# Altium schematic symbol library Replacements.SchLib: 8 symbols
Pins are listed as number, name and electrical type; pins without a type are passive.

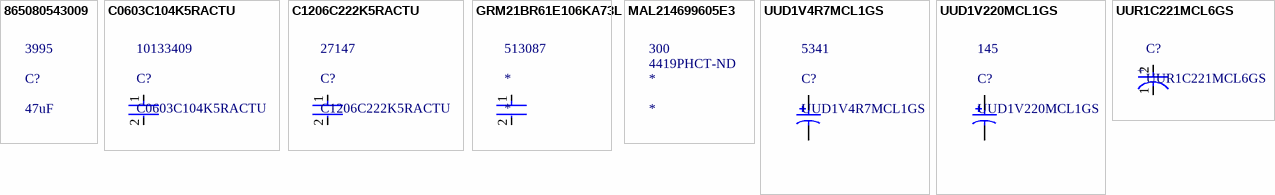
[diagram p0: symbols 865080543009 to UUR1C221MCL6GS]

## 865080543009
designator C?, comment 47uF  Stock 1: 3995
Alum. Electrolytic Cap 47µF 35V 6.3mmV-Chip WCAP-ASLI; Lifetime 2000h +105°C; Manufacturer: Wurth Electronics; Manufacturer Part Number: 865080543009; Polarity: Polar; Ripple Current: 240mA; Impedance: 530mR; Life (Hours): 2000Hour; Tolerance: 20%; Supplier 1: Digi-Key; RoHS: Yes; Category: Aluminum Electrolytic Capacitors; Pricing 1: 1=0.27000, 50=0.23000, 100=0.20100, 250=0.17800, 500=0.15600 (USD); Mount: Surface Mount; Case/Package: Radial; Min Operating Temperature: -55°C; Max Operating Temperature: 105°C; Package Quantity: 1000; Packaging: Cut Tape; Voltage Rating: 35V; Ripple Current (AC): 240mA; Voltage Rating (DC): 35V; Capacitance: 47uF; Diameter: 6.3mm; Height: 5.5mm; Height - Seated (Max): 0.217inch; REACH SVHC: Unknown; RoHS Compliant: Yes; ComponentLink1URL: http://www.farnell.com/datasheets/1880161.pdf?src-supplier=Farnell; ComponentLink1Description: http://www.farnell.com/datasheets/1880161.pdf?src-supplier=Farnell; ComponentLink2URL: http://katalog.we-online.de/pbs/datasheet/865080543009.pdf?src-supplier=Digi-Key; ComponentLink2Description: http://katalog.we-online.de/pbs/datasheet/865080543009.pdf?src-supplier=Digi-Key; ComponentLink3URL: https://katalog.we-online.de/pbs/datasheet/865080543009.pdf?src-supplier=Digi-Key; ComponentLink3Description: https://katalog.we-online.de/pbs/datasheet/865080543009.pdf?src-supplier=Digi-Key; ComponentLink4URL: http://www.farnell.com/datasheets/1880161.pdf?src-supplier=Newark; ComponentLink4Description: http://www.farnell.com/datasheets/1880161.pdf?src-supplier=Newark; ComponentLink5URL: http://www.farnell.com/datasheets/1880161.pdf?src-supplier=Element14; ComponentLink5Description: http://www.farnell.com/datasheets/1880161.pdf?src-supplier=Element14; Supplier Part Number 1: 732-8508-1-ND

## C0603C104K5RACTU
designator C?  Stock 1: 10133409
Multilayer Ceramic Capacitors (MLCC) - SMD/SMT 50volts 0.1uF X7R 10%; Manufacturer: KEMET; Voltage Rating (DC): 50V; Capacitance: 100nF; Dissipation Factor: 2.5%; Supplier 1: Digi-Key; Manufacturer Part Number: C0603C104K5RACTU; RoHS: Yes; Category: Ceramic Capacitors; Pricing 1: 1=0.12000, 10=0.08500, 50=0.04620, 100=0.03770, 500=0.02696, 1000=0.02118 (USD); Mount: Surface Mount; Case/Package: 0603; Number of Pins: 2; Case Code (Metric): 1608; Case Code (Imperial): 0603; Dielectric Material: Ceramic; Contact Plating: Tin,Matte; Min Operating Temperature: -55°C; Max Operating Temperature: 125°C; Tolerance: 10%; Voltage Rating: 50V; Packaging: Tape and Reel; Package Quantity: 1; Dielectric: X7R; Termination: SMD/SMT; Voltage: 50V; Series: SMD Comm X7R; Length: 0.063inch; Width: 0.031inch; Height: 0.8mm; Thickness: 0.034inch; Depth: 0.8mm; Lead Pitch: 0.7mm; Radiation Hardening: No; REACH SVHC: No SVHC; RoHS Compliant: Yes; ComponentLink1URL: https://datasheet.ciiva.com/7823/kem-c1002-x7r-smd-7823591.pdf?src-supplier=Element14; ComponentLink1Description: https://datasheet.ciiva.com/7823/kem-c1002-x7r-smd-7823591.pdf?src-supplier=Element14; ComponentLink2URL: https://datasheet.ciiva.com/7823/kem-c1002-x7r-smd-7823592.pdf?src-supplier=Element14; ComponentLink2Description: https://datasheet.ciiva.com/7823/kem-c1002-x7r-smd-7823592.pdf?src-supplier=Element14; ComponentLink3URL: https://datasheet.ciiva.com/5999/kem-c1002-x7r-smd-5999400.pdf?src-supplier=Farnell; ComponentLink3Description: https://datasheet.ciiva.com/5999/kem-c1002-x7r-smd-5999400.pdf?src-supplier=Farnell; ComponentLink4URL: https://datasheet.ciiva.com/28645/1851736-28645640.pdf?src-supplier=Element14; ComponentLink4Description: https://datasheet.ciiva.com/28645/1851736-28645640.pdf?src-supplier=Element14; ComponentLink5URL: https://datasheet.ciiva.com/14585/70095383-14585209.pdf?src-supplier=Allied+Electronics; ComponentLink5Description: https://datasheet.ciiva.com/14585/70095383-14585209.pdf?src-supplier=Allied+Electronics; ComponentLink6URL: https://datasheet.ciiva.com/14602/70095383-14602583.pdf?src-supplier=Allied+Electronics; ComponentLink6Description: https://datasheet.ciiva.com/14602/70095383-14602583.pdf?src-supplier=Allied+Electronics; Supplier Part Number 1: 399-C0603C104K5RAC7867CT-ND
footprint FP-C0603C-CF-IPC_A
pins: 1, 2

## C1206C222K5RACTU
designator C?  Stock 1: 27147
CAPACITOR SMD Multilayer Ceramic MLCC 1206 Case 2200pF ±10% 50Vdc X7R Dielectric -55°C~+125°C T/R; Manufacturer: KEMET; Capacitance: 2.2nF; Voltage Rating: 50V; Supplier 1: Digi-Key; Manufacturer Part Number: C1206C222K5RACTU; RoHS: Yes; Category: Ceramic Capacitors; Pricing 1: 1=0.23000, 10=0.16000, 50=0.09600, 100=0.08110, 500=0.05548, 1000=0.04908 (USD); Mount: Surface Mount,PCB; Case/Package: 1206; Case Code (Imperial): 1206; Case Code (Metric): 3216; Dielectric Material: Ceramic; Min Operating Temperature: -55°C; Max Operating Temperature: 125°C; Packaging: Tape and Reel; Package Quantity: 1; Tolerance: 10%; Voltage Rating (DC): 50V; Termination: SMD/SMT; Series: C; Dielectric: X7R; Voltage: 50V; Construction: Flat; Length: 3.2mm; Width: 0.063inch; Height: 0.78mm; Depth: 1.6mm; Thickness: 0.035inch; Radiation Hardening: No; REACH SVHC: No SVHC; RoHS Compliant: Yes; ComponentLink1URL: https://datasheet.ciiva.com/14589/70095383-14589254.pdf?src-supplier=Allied+Electronics; ComponentLink1Description: https://datasheet.ciiva.com/14589/70095383-14589254.pdf?src-supplier=Allied+Electronics; ComponentLink2URL: https://datasheet.ciiva.com/14606/70095383-14606284.pdf?src-supplier=Allied+Electronics; ComponentLink2Description: https://datasheet.ciiva.com/14606/70095383-14606284.pdf?src-supplier=Allied+Electronics; ComponentLink3URL: https://datasheet.ciiva.com/28693/1851736-28693015.pdf?src-supplier=Element14; ComponentLink3Description: https://datasheet.ciiva.com/28693/1851736-28693015.pdf?src-supplier=Element14; ComponentLink4URL: https://datasheet.ciiva.com/46443/1851736-46443542.pdf?src-supplier=Element14; ComponentLink4Description: https://datasheet.ciiva.com/46443/1851736-46443542.pdf?src-supplier=Element14; ComponentLink5URL: https://datasheet.ciiva.com/46385/1851736-46385639.pdf?src-supplier=Element14; ComponentLink5Description: https://datasheet.ciiva.com/46385/1851736-46385639.pdf?src-supplier=Element14; Supplier Part Number 1: 399-C1206C222K5RAC7800CT-ND
footprint FP-C1206C-EB-IPC_A
pins: 1, 2

## GRM21BR61E106KA73L
designator *  Stock 1: 513087
0805 10 uF 25 V ±10% Tolerance X5R SMT Multilayer Ceramic Capacitor; Manufacturer: Murata; Manufacturer Part Number: GRM21BR61E106KA73L; Capacitance: 10uF; Voltage Rating: 25V; Supplier 1: Mouser; RoHS: Yes; Category: Ceramic Capacitors; Pricing 1: 1=0.24000, 10=0.16400, 50=0.16400, 100=0.08400, 1000=0.08400, 6000=0.07600, 9000=0.06200, 10000=0.06200, 24000=0.05400 (USD); Mount: Surface Mount; Case/Package: 0805; Case Code (Metric): 2012; Case Code (Imperial): 0805; Material: Ceramic; Min Operating Temperature: -55°C; Max Operating Temperature: 85°C; Package Quantity: 1; Tolerance: 10%; Packaging: Tape and Reel; Voltage Rating (DC): 25V; Termination: SMD/SMT; Voltage: 25V; Series: GRM; Construction: Flat; Dielectric: X5R; Length: 2mm; Width: 0.049inch; Height: 1.25mm; Depth: 1.25mm; Thickness: 0.053inch; Radiation Hardening: No; REACH SVHC: Unknown; RoHS Compliant: Yes; Lead Free: Lead Free; ComponentLink1URL: https://datasheet.ciiva.com/22774/1747469-22774396.pdf?src-supplier=Farnell; ComponentLink1Description: https://datasheet.ciiva.com/22774/1747469-22774396.pdf?src-supplier=Farnell; ComponentLink2URL: https://datasheet.ciiva.com/5424/product-5424327.pdf?src-supplier=Mouser; ComponentLink2Description: https://datasheet.ciiva.com/5424/product-5424327.pdf?src-supplier=Mouser; ComponentLink3URL: https://datasheet.ciiva.com/16440/grm21br61e106ka73l-16440627.pdf?src-supplier=Future+Electronics; ComponentLink3Description: https://datasheet.ciiva.com/16440/grm21br61e106ka73l-16440627.pdf?src-supplier=Future+Electronics; ComponentLink4URL: https://datasheet.ciiva.com/28584/626718-28584288.pdf?src-supplier=Element14; ComponentLink4Description: https://datasheet.ciiva.com/28584/626718-28584288.pdf?src-supplier=Element14; ComponentLink5URL: https://datasheet.ciiva.com/29199/454623-da-01-en-vs-kondensator-0805-29199615.pdf?src-supplier=Conrad; ComponentLink5Description: https://datasheet.ciiva.com/29199/454623-da-01-en-vs-kondensator-0805-29199615.pdf?src-supplier=Conrad; ComponentLink6URL: https://datasheet.ciiva.com/139/partnumbering-e-01-139182.pdf?src-supplier=Digi-Key; ComponentLink6Description: https://datasheet.ciiva.com/139/partnumbering-e-01-139182.pdf?src-supplier=Digi-Key; ComponentLink7URL: https://datasheet.ciiva.com/139/partnumbering-e-01-139183.pdf?src-supplier=Digi-Key; ComponentLink7Description: https://datasheet.ciiva.com/139/partnumbering-e-01-139183.pdf?src-supplier=Digi-Key; ComponentLink8URL: https://datasheet.ciiva.com/139/partnumbering-e-01-139184.pdf?src-supplier=Digi-Key; ComponentLink8Description: https://datasheet.ciiva.com/139/partnumbering-e-01-139184.pdf?src-supplier=Digi-Key; ComponentLink9URL: https://datasheet.ciiva.com/28584/626718-28584279.pdf?src-supplier=Element14; ComponentLink9Description: https://datasheet.ciiva.com/28584/626718-28584279.pdf?src-supplier=Element14; ComponentLink10URL: https://datasheet.ciiva.com/7719/1747469-7719093.pdf?src-supplier=Element14; ComponentLink10Description: https://datasheet.ciiva.com/7719/1747469-7719093.pdf?src-supplier=Element14; ComponentLink11URL: https://datasheet.ciiva.com/14116/grmseries-highdielectrictype-eng-14116376.pdf?src-supplier=Distrelec; ComponentLink11Description: https://datasheet.ciiva.com/14116/grmseries-highdielectrictype-eng-14116376.pdf?src-supplier=Distrelec; Supplier Part Number 1: 81-GRM21BR61E106KA3L
footprint FP-GRM21B-0_15-IPC_A
pins: 1, 2

## MAL214699605E3
designator *  Supplier Part Number 1: 4419PHCT-ND  Stock 1: 300
Cap Aluminum 1000uF 25V 20% (16 X 16mm) SMD 1400mA 5000 hr 125°C T/R; Manufacturer: Vishay BCcomponents; Manufacturer Part Number: MAL214699605E3; Capacitance: 1mF; Ripple Current: 1.4A; Impedance: 50mR; Polarity: Polar; Leakage Current: 250uA; Life (Hours): 5000Hour; Lead Diameter: 1.3mm; Supplier 1: Digi-Key; RoHS: Yes; Category: Aluminum Electrolytic Capacitors; Pricing 1: 1=4.25000, 10=3.42400, 50=2.94480 (USD); Mount: Surface Mount; Case/Package: Radial; Min Operating Temperature: -55°C; Max Operating Temperature: 125°C; Tolerance: 20%; Package Quantity: 150; Voltage Rating: 25V; Packaging: Tape and Reel; Voltage Rating (DC): 25V; Termination: SMD/SMT; Voltage: 25V; Series: 146 CTI; Construction: Cylindrical; Diameter: 16mm; Width: 16mm; Height: 16mm; Lead Pitch: 6.5mm; Height - Seated (Max): 0.63inch; Radiation Hardening: No; RoHS Compliant: Yes; ComponentLink1URL: https://datasheet.ciiva.com/11777/0900766b81003e87-11777124.pdf?src-supplier=RSComponents; ComponentLink1Description: https://datasheet.ciiva.com/11777/0900766b81003e87-11777124.pdf?src-supplier=RSComponents; ComponentLink2URL: https://datasheet.ciiva.com/100/146cti-100097.pdf?src-supplier=Digi-Key; ComponentLink2Description: https://datasheet.ciiva.com/100/146cti-100097.pdf?src-supplier=Digi-Key; ComponentLink3URL: https://datasheet.ciiva.com/100/146cti-100098.pdf?src-supplier=Digi-Key; ComponentLink3Description: https://datasheet.ciiva.com/100/146cti-100098.pdf?src-supplier=Digi-Key; ComponentLink4URL: https://datasheet.ciiva.com/100/146cti-100099.pdf?src-supplier=Digi-Key; ComponentLink4Description: https://datasheet.ciiva.com/100/146cti-100099.pdf?src-supplier=Digi-Key; ComponentLink5URL: https://datasheet.ciiva.com/5360/146cti-247382-5360202.pdf?src-supplier=Mouser; ComponentLink5Description: https://datasheet.ciiva.com/5360/146cti-247382-5360202.pdf?src-supplier=Mouser; ComponentLink6URL: https://datasheet.ciiva.com/17506/146cti-17506712.pdf?src-supplier=Avnet+Europe; ComponentLink6Description: https://datasheet.ciiva.com/17506/146cti-17506712.pdf?src-supplier=Avnet+Europe

## UUD1V4R7MCL1GS
designator C?  Stock 1: 5341
Cap Aluminum Lytic 4.7uF 35V 20% (4 X 5.8mm) SMD 80mA 2000h 105C Automotive T/R; Manufacturer: Nichicon; Dielectric Material: Aluminium; Leakage Current: 3uA; Life (Hours): 2000Hour; Impedance: 1.8R; Dissipation Factor: 0.12%; Supplier 1: Digi-Key; Manufacturer Part Number: UUD1V4R7MCL1GS; RoHS: Yes; Category: Aluminum Electrolytic Capacitors; Pricing 1: 1=0.51000, 10=0.35600, 50=0.24960, 100=0.21390, 500=0.16042, 1000=0.13547 (USD); Case/Package: Radial; Number of Pins: 2; Min Operating Temperature: -55°C; Max Operating Temperature: 105°C; Tolerance: 20%; Ripple Current: 80mA; Package Quantity: 2000; Voltage Rating (DC): 35V; Packaging: Tape and Reel; Capacitance: 4.7uF; Termination: SMD/SMT; Series: UUD; Voltage Rating: 35V; Construction: Cylindrical; Ripple Current (AC): 80mA; Diameter: 4mm; Length: 5.8mm; Height: 5.8mm; Height - Seated (Max): 0.228inch; Radiation Hardening: No; RoHS Compliant: Yes; Lead Free: Lead Free; REACH SVHC: No SVHC; ComponentLink1URL: https://datasheet.ciiva.com/96/e-ud-96647.pdf?src-supplier=Digi-Key; ComponentLink1Description: https://datasheet.ciiva.com/96/e-ud-96647.pdf?src-supplier=Digi-Key; ComponentLink2URL: https://datasheet.ciiva.com/96/e-ud-96648.pdf?src-supplier=Digi-Key; ComponentLink2Description: https://datasheet.ciiva.com/96/e-ud-96648.pdf?src-supplier=Digi-Key; ComponentLink3URL: https://datasheet.ciiva.com/96/e-ud-96649.pdf?src-supplier=Digi-Key; ComponentLink3Description: https://datasheet.ciiva.com/96/e-ud-96649.pdf?src-supplier=Digi-Key; ComponentLink4URL: https://datasheet.ciiva.com/5360/e-ud-5360520.pdf?src-supplier=Mouser; ComponentLink4Description: https://datasheet.ciiva.com/5360/e-ud-5360520.pdf?src-supplier=Mouser; ComponentLink5URL: https://datasheet.ciiva.com/11687/e-ud-11687388.pdf?src-supplier=Avnet; ComponentLink5Description: https://datasheet.ciiva.com/11687/e-ud-11687388.pdf?src-supplier=Avnet; ComponentLink6URL: https://datasheet.ciiva.com/16383/e-ud-16383407.pdf?src-supplier=Future+Electronics; ComponentLink6Description: https://datasheet.ciiva.com/16383/e-ud-16383407.pdf?src-supplier=Future+Electronics; ComponentLink7URL: https://datasheet.ciiva.com/7793/e-ud-7793429.pdf?src-supplier=Element14; ComponentLink7Description: https://datasheet.ciiva.com/7793/e-ud-7793429.pdf?src-supplier=Element14; ComponentLink8URL: https://datasheet.ciiva.com/17354/e-ud-17354680.pdf?src-supplier=Avnet+Europe; ComponentLink8Description: https://datasheet.ciiva.com/17354/e-ud-17354680.pdf?src-supplier=Avnet+Europe; Supplier Part Number 1: 493-2281-1-ND
footprint NIC-CAPA2-4X5.8_V (Aluminum Electrolytic Capacitor, Diameter 4mm, Height 6.1mm, Pitch 3.6mm)
pins: 1, 2

## UUD1V220MCL1GS
designator C?  Stock 1: 145
Aluminum Electrolytic Capacitor, 22uF 35 V, UD Series 2000h 5 (Dia.) x 5.8mm; Manufacturer: Nichicon; Dielectric Material: Aluminium; Tolerance: 20%; Ripple Current: 150mA; Voltage Rating (DC): 35V; Impedance: 760mR; Leakage Current: 3uA; Life (Hours): 2000Hour; Dissipation Factor: 0.12%; Polarity: Polar; Lead Diameter: 0.8mm; Supplier 1: Mouser; Manufacturer Part Number: UUD1V220MCL1GS; RoHS: Yes; Category: Aluminum Electrolytic Capacitors; Pricing 1: 1=0.48000, 10=0.30200, 50=0.30200, 100=0.22000, 1000=0.16500, 10000=0.13800 (USD); Case/Package: Radial; Number of Pins: 2; Min Operating Temperature: -55°C; Max Operating Temperature: 105°C; Capacitance: 22uF; Package Quantity: 1; Ripple Current (AC): 150mA; Packaging: Tape and Reel; Voltage Rating: 35V; Termination: SMD/SMT; Voltage: 35V; Features: General Purpose; Diameter: 5mm; Length: 5.8mm; Height: 5.8mm; Lead Pitch: 1.3mm; Height - Seated (Max): 0.228inch; Radiation Hardening: No; REACH SVHC: No SVHC; Lead Free: Lead Free; RoHS Compliant: Yes; ComponentLink1URL: https://datasheet.ciiva.com/96/e-ch-ta-96798.pdf?src-supplier=Digi-Key; ComponentLink1Description: https://datasheet.ciiva.com/96/e-ch-ta-96798.pdf?src-supplier=Digi-Key; ComponentLink2URL: https://datasheet.ciiva.com/96/e-uud-96799.pdf?src-supplier=Digi-Key; ComponentLink2Description: https://datasheet.ciiva.com/96/e-uud-96799.pdf?src-supplier=Digi-Key; ComponentLink3URL: https://datasheet.ciiva.com/96/e-ch-ref-96800.pdf?src-supplier=Digi-Key; ComponentLink3Description: https://datasheet.ciiva.com/96/e-ch-ref-96800.pdf?src-supplier=Digi-Key; Supplier Part Number 1: 647-UUD1V220MCL
footprint NIC-CAPA2-5X5.8_V (Aluminum Electrolytic Capacitor, Diameter 5mm, Height 6.1mm, Pitch 4.4mm)
pins: 1, 2

## UUR1C221MCL6GS
designator C?
Cap Aluminum Lytic 220uF 16V 20% (6.3 X 7.7mm) SMD 162mA 2000h 85C T/R; Manufacturer: Nichicon; Leakage Current: 16.5uA; Life (Hours): 2000Hour; Dissipation Factor: 0.2%; Supplier 1: Mouser; Manufacturer Part Number: UUR1C221MCL6GS; RoHS: Yes; Category: Aluminum Electrolytic Capacitors; Pricing 1: 1=0.45000, 10=0.31200, 50=0.31200, 100=0.18700, 500=0.14100, 1000=0.14100, 10000=0.14100 (USD); Mount: Surface Mount; Case/Package: Radial; Min Operating Temperature: -40°C; Max Operating Temperature: 85°C; Capacitance: 220uF; Tolerance: 20%; Ripple Current: 162mA; Package Quantity: 900; Voltage Rating: 16V; Packaging: Tape and Reel; Voltage Rating (DC): 16V; Termination: SMD/SMT; Features: General Purpose; Series: UR; Construction: Cylindrical; Diameter: 6.3mm; Length: 7.7mm; Height: 7.7mm; Height - Seated (Max): 0.315inch; Radiation Hardening: No; Lead Free: Lead Free; RoHS Compliant: Yes; ComponentLink1URL: https://datasheet.ciiva.com/6328/e-ur-6328141.pdf?src-supplier=Digi-Key; ComponentLink1Description: https://datasheet.ciiva.com/6328/e-ur-6328141.pdf?src-supplier=Digi-Key; ComponentLink2URL: https://datasheet.ciiva.com/6328/e-ur-6328143.pdf?src-supplier=Digi-Key; ComponentLink2Description: https://datasheet.ciiva.com/6328/e-ur-6328143.pdf?src-supplier=Digi-Key; ComponentLink3URL: https://datasheet.ciiva.com/11686/e-ur-11686685.pdf?src-supplier=Avnet; ComponentLink3Description: https://datasheet.ciiva.com/11686/e-ur-11686685.pdf?src-supplier=Avnet; ComponentLink4URL: https://datasheet.ciiva.com/16502/e-ur-16502798.pdf?src-supplier=Future+Electronics; ComponentLink4Description: https://datasheet.ciiva.com/16502/e-ur-16502798.pdf?src-supplier=Future+Electronics; ComponentLink5URL: https://datasheet.ciiva.com/17526/e-ur-17526773.pdf?src-supplier=Avnet+Europe; ComponentLink5Description: https://datasheet.ciiva.com/17526/e-ur-17526773.pdf?src-supplier=Avnet+Europe; Supplier Part Number 1: 647-UUR1C221MCL6GS; Stock 1: 78
footprint FP-UUR1C221MCL6GS-MFG
pins: 1 C, 2 A
text: +